# Altium schematic symbol library CPAV.SchLib: 61 symbols
Pins are listed as number, name and electrical type; pins without a type are passive.

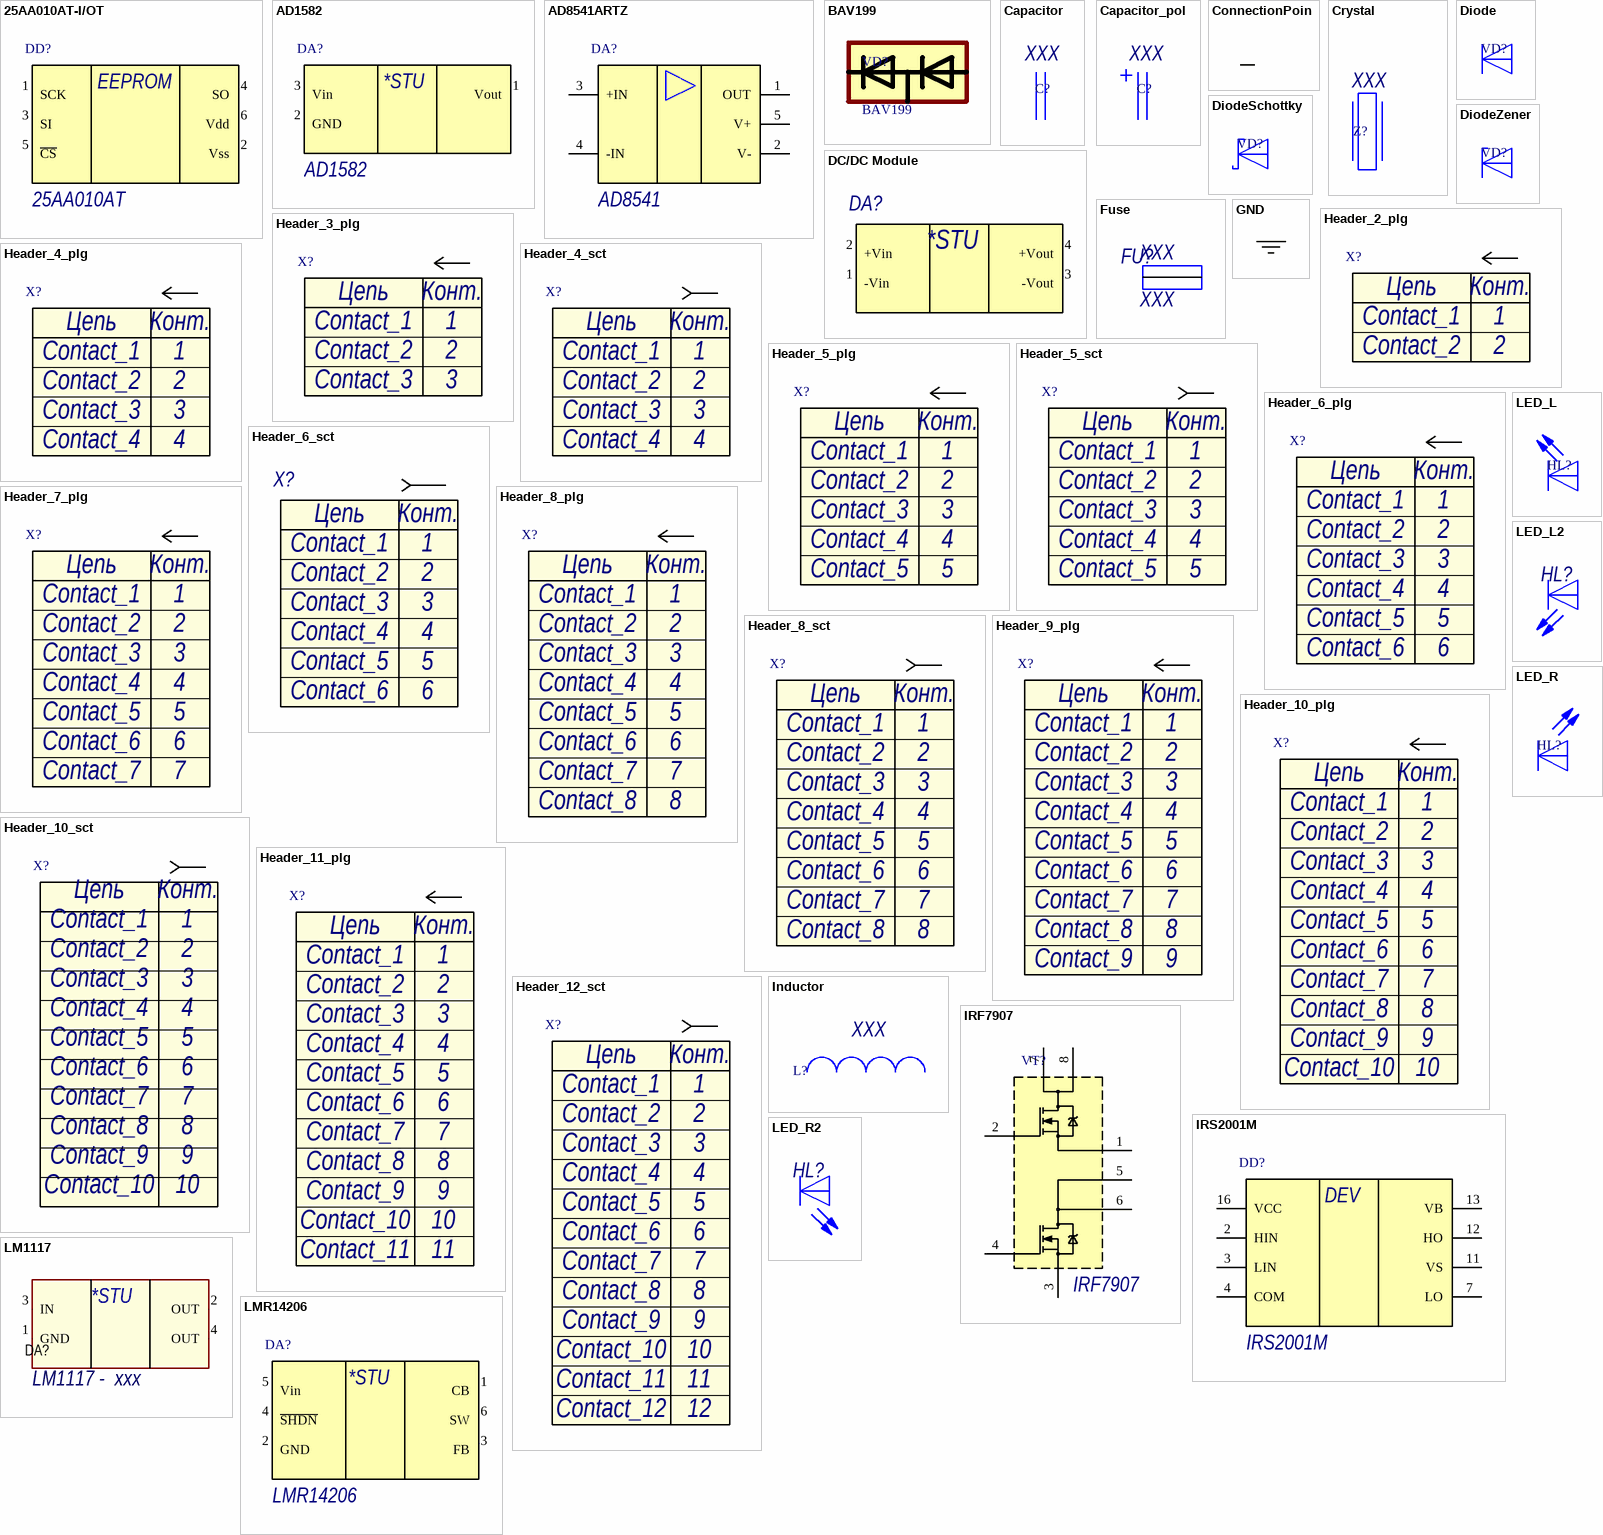
[diagram p0: symbols 25AA010AT-I/OT to LMR14206]

## 25AA010AT-I/OT
designator DD?, comment 25AA010AT
ПЗУ 1K SPI; Name: 25AA010AT
footprint SOT23-6_A
footprint SOT23-6_H
pins: 1 SCK, 2 Vss, 3 SI, 4 SO, 5 ~{CS}, 6 Vdd
text: EEPROM

## AD1582
designator DA?
ИОН 2.5В; Name: AD1582
footprint SOT23-3_A
footprint SOT23-3_H
pins: 1 Vout, 2 GND, 3 Vin
text: *STU

## AD8541ARTZ
designator DA?, comment AD8541
ОУ; Name: AD8541
footprint SOT23-5_A
footprint SOT23-5_H
pins: 1 OUT, 2 V-, 3 +IN, 4 -IN, 5 V+

## BAV199
designator VD?
2 диода; Name: BAV199
pins: 1, 2, 3

## Capacitor
designator C?, comment XXX
Конденсатор; Value: XXX
footprint C0402_A
footprint C0402_H
footprint C0603_A
footprint C0603_H
footprint C0805_A
footprint C0805_H
footprint C1206_A
footprint C1206_H
footprint C1210_A
footprint C1210_H
footprint C1812_A
footprint C1812_H
footprint C1825_A
footprint C1825_H
footprint C2220_A
footprint C2220_H
footprint C2225_A
footprint C2225_H
pins: 1, 2

## Capacitor_pol
designator C?, comment XXX
Конденсатор поляризованный; Value: XXX
footprint SMDA_A
footprint SMDA_H
footprint SMDB_A
footprint SMDB_H
footprint SMDC_A
footprint SMDC_H
footprint SMDD_A
footprint SMDD_H
footprint SMDE_A
footprint SMDE_H
footprint Cap_SMD_radial_polar(8x10) (8x10)
footprint CAP_PIN_RAD_8x8x11
footprint Cap_SMD_radial_polar(6.3x5.8)
pins: 1, 2

## ConnectionPoin
designator ?
ConnectionPoin
footprint ConnectionPoint
pins: 1, 2

## Crystal
designator Z?, comment XXX
Кварцевый резонатор; Value: XXX
footprint QSMD3.2x2.5_A
footprint QSMD3.2x2.5_H
footprint HC-49SM (Кварцевый резонатор поверхностного монтажа)
pins: 1, 2

## DC/DC Module
designator DA?  (value not drawn)
DC/DC модульный преобразователь; Name: *
footprint SIP4
pins: 1 -Vin, 2 +Vin, 3 -Vout, 4 +Vout
text: *STU

## Diode
designator VD?
Диод
footprint SOD523_A
footprint SOD523_H
pins: 1 K, 2 A

## DiodeSchottky
designator VD?
Диод Шоттки
footprint SOD123_A
footprint SOD123_H
footprint SMA_A
footprint SMA_H
footprint SOD-323
pins: 1 K, 2 A

## DiodeZener
designator VD?
Стабилитрон
footprint SMA_A
footprint SMA_H
footprint SOD523_A
footprint SOD523_H
footprint SOT23-2_A
footprint SOT23-2_H
footprint SMDB_A
footprint SMDB_H
pins: 1 K, 2 A

## Fuse
designator FU?, comment XXX
Предохранитель плавкий; Name: XXX; Value: XXX
footprint SMD 2.69/2.69/6.10
pins: 1, 2

## GND
designator GND  (value not drawn)
pins: 1 GND

## Header_2_plg
designator X?
Разъем - 2 конт. вилка; Contact_1: Contact_1; Contact_2: Contact_2
footprint MOLEX_picoblade_2
footprint MW-2M
footprint MW-2MR
footprint PWL-2R
footprint Terminal_2.54-2
footprint PBS2-2
footprint SMA-JR
footprint MF_2x1_H
pins: 1, 2
text: Цепь; Конт.

## Header_3_plg
designator X?
Разъем - 3 конт. вилка; Contact_1: Contact_1; Contact_2: Contact_2; Contact_3: Contact_3
footprint PLS2-3
footprint MOLEX_picoblade_3
footprint MOLEX_picoblade_3R
footprint PWL-3R
footprint Terminal_2.54-3
footprint MW-3MR
pins: 1, 2, 3
text: Цепь; Конт.

## Header_4_plg
designator X?
Разъем - 4 конт. вилка; Contact_1: Contact_1; Contact_2: Contact_2; Contact_3: Contact_3; Contact_4: Contact_4
footprint MOLEX_picoblade_4
footprint MOLEX_picoblade_4R
footprint MW-4M
footprint MW-4MR
footprint THP-4MR
pins: 1, 2, 3, 4
text: Цепь; Конт.

## Header_4_sct
designator X?
Разъем - 4 конт. розетка; Contact_1: Contact_1; Contact_2: Contact_2; Contact_3: Contact_3; Contact_4: Contact_4
footprint MOLEX_picoblade_4
footprint MOLEX_picoblade_4R
footprint MW-4MR
footprint MW-4M
pins: 1, 2, 3, 4
text: Цепь; Конт.

## Header_5_plg
designator X?
Разъем - 5 конт. вилка; Contact_1: Contact_1; Contact_2: Contact_2; Contact_3: Contact_3; Contact_4: Contact_4; Contact_5: Contact_5
footprint MOLEX_picoblade_5
footprint MW-5M
footprint MW-5MR
pins: 1, 2, 3, 4, 5
text: Цепь; Конт.

## Header_5_sct
designator X?
Разъем - 5 конт. розетка; Contact_1: Contact_1; Contact_2: Contact_2; Contact_3: Contact_3; Contact_4: Contact_4; Contact_5: Contact_5
footprint MOLEX_picoblade_5
footprint MW-5M
footprint MW-5MR
pins: 1, 2, 3, 4, 5
text: Цепь; Конт.

## Header_6_plg
designator X?
Разъем - 6 конт. вилка; Contact_1: Contact_1; Contact_2: Contact_2; Contact_3: Contact_3; Contact_4: Contact_4; Contact_5: Contact_5; Contact_6: Contact_6
footprint MOLEX_picoblade_6
footprint MW-6M
footprint PLS-6
pins: 1, 2, 3, 4, 5, 6
text: Цепь; Конт.

## Header_6_sct
designator X?  (value not drawn)
Разъем  - 6 конт. розетка; Contact_1: Contact_1; Contact_2: Contact_2; Contact_3: Contact_3; Contact_4: Contact_4; Contact_5: Contact_5; Contact_6: Contact_6
footprint 06FDZ-ST
pins: 1, 2, 3, 4, 5, 6
text: Цепь; Конт.

## Header_7_plg
designator X?
Разъем - 7 конт. вилка; Contact_1: Contact_1; Contact_2: Contact_2; Contact_3: Contact_3; Contact_4: Contact_4; Contact_5: Contact_5; Contact_6: Contact_6; Contact_7: Contact_7
footprint MOLEX_picoblade_7
pins: 1, 2, 3, 4, 5, 6, 7
text: Цепь; Конт.

## Header_8_plg
designator X?
Разъем - 8 конт. вилка; Contact_1: Contact_1; Contact_2: Contact_2; Contact_3: Contact_3; Contact_4: Contact_4; Contact_5: Contact_5; Contact_6: Contact_6; Contact_7: Contact_7; Contact_8: Contact_8
footprint MOLEX_picoblade_8
pins: 1, 2, 3, 4, 5, 6, 7, 8
text: Цепь; Конт.

## Header_8_sct
designator X?
Разъем - 8 конт. розетка; Contact_1: Contact_1; Contact_2: Contact_2; Contact_3: Contact_3; Contact_4: Contact_4; Contact_5: Contact_5; Contact_6: Contact_6; Contact_7: Contact_7; Contact_8: Contact_8
footprint MOLEX_picoblade_8
pins: 1, 2, 3, 4, 5, 6, 7, 8
text: Цепь; Конт.

## Header_9_plg
designator X?
Разъем - 9 конт. вилка; Contact_1: Contact_1; Contact_2: Contact_2; Contact_3: Contact_3; Contact_4: Contact_4; Contact_5: Contact_5; Contact_6: Contact_6; Contact_7: Contact_7; Contact_8: Contact_8; Contact_9: Contact_9
pins: 1, 2, 3, 4, 5, 6, 7, 8, 9
text: Цепь; Конт.

## Header_10_plg
designator X?
Разъем - 10 конт. вилка; Contact_1: Contact_1; Contact_2: Contact_2; Contact_3: Contact_3; Contact_4: Contact_4; Contact_5: Contact_5; Contact_6: Contact_6; Contact_7: Contact_7; Contact_8: Contact_8; Contact_9: Contact_9; Contact_10: Contact_10
footprint PLLD1.27-10S (PLDD-1.27)
footprint MOLEX_PICOBLADE_10
pins: 1, 2, 3, 4, 5, 6, 7, 8, 9, 10
text: Цепь; Конт.

## Header_10_sct
designator X?
Разъем - 10 конт. розетка; Contact_1: Contact_1; Contact_2: Contact_2; Contact_3: Contact_3; Contact_4: Contact_4; Contact_5: Contact_5; Contact_6: Contact_6; Contact_7: Contact_7; Contact_8: Contact_8; Contact_9: Contact_9; Contact_10: Contact_10
footprint MOLEX_52207-1085
footprint PBS2-10
footprint PBS2-10S
pins: 1, 2, 3, 4, 5, 6, 7, 8, 9, 10
text: Цепь; Конт.

## Header_11_plg
designator X?
Разъем - 11 конт. вилка; Contact_1: Contact_1; Contact_2: Contact_2; Contact_3: Contact_3; Contact_4: Contact_4; Contact_5: Contact_5; Contact_6: Contact_6; Contact_7: Contact_7; Contact_8: Contact_8; Contact_9: Contact_9; Contact_10: Contact_10; Contact_11: Contact_11
pins: 1, 2, 3, 4, 5, 6, 7, 8, 9, 10, 11
text: Цепь; Конт.

## Header_12_sct
designator X?
Разъем - 12 конт. розетка; Contact_1: Contact_1; Contact_2: Contact_2; Contact_3: Contact_3; Contact_4: Contact_4; Contact_5: Contact_5; Contact_6: Contact_6; Contact_7: Contact_7; Contact_8: Contact_8; Contact_9: Contact_9; Contact_10: Contact_10; Contact_11: Contact_11; Contact_12: Contact_12
footprint PBS2-12
footprint PBS2-12S
pins: 1, 2, 3, 4, 5, 6, 7, 8, 9, 10, 11, 12
text: Цепь; Конт.

## Inductor
designator L?, comment XXX
Катушка индуктивности; Value: XXX
footprint L0603_A
footprint L0603_H
footprint IND_CDRH4D28C_A
footprint IND_CDRH4D28C_H
footprint IND_SRU1048_A
footprint IND_SRU1048_H
footprint IND_RCR-875D
footprint IND 8.3x8.3x4
footprint IND_CDRH104
footprint IND_CDC5D23B
footprint IND_CDRH127
footprint IND_CDR74NP
pins: 1, 2

## IRF7907
designator VT?
2 x N-MOSFET; Name: IRF7907
footprint SO8_A
footprint SO8_H
pins: 1, 2, 3, 4, 5, 6, 7, 8

## IRS2001M
designator DD?
HI-LO side driver; Name: IRS2001M
footprint MLPQ4x4
pins: 2 HIN, 3 LIN, 4 COM, 7 LO, 11 VS, 12 HO, 13 VB, 16 VCC
text: DEV

## LED_L
designator HL?
Светодиод
footprint D0603_A
footprint D0603_H
pins: 1 K, 2 A

## LED_L2
designator HL?  (value not drawn)
Светодиод; Name: *
footprint D0603_H
footprint D0603_A
pins: 1 K, 2 A

## LED_R
designator HL?
Светодиод
footprint D0603_A
footprint D0603_H
pins: 1 K, 2 A

## LED_R2
designator HL?  (value not drawn)
Светодиод; Name: *
footprint D0603_A
footprint D0603_H
pins: 1 K, 2 A

## LM1117
designator DA?, comment Vout: xxx  (hidden comment: LM1117 -)
Линейный стабилизатор напряжения; Vin: 20V; Imax: 800mA; Name: LM1117 -
footprint SOT223
footprint TO-263
pins: 1 GND, 2 OUT, 3 IN, 4 OUT
text: *STU

## LMR14206
designator DA?
DC\DC; Name: LMR14206
footprint SOT23-6_A
footprint SOT23-6_H
pins: 1 CB, 2 GND, 3 FB, 4 ~{SHDN}, 5 Vin, 6 SW
text: *STU

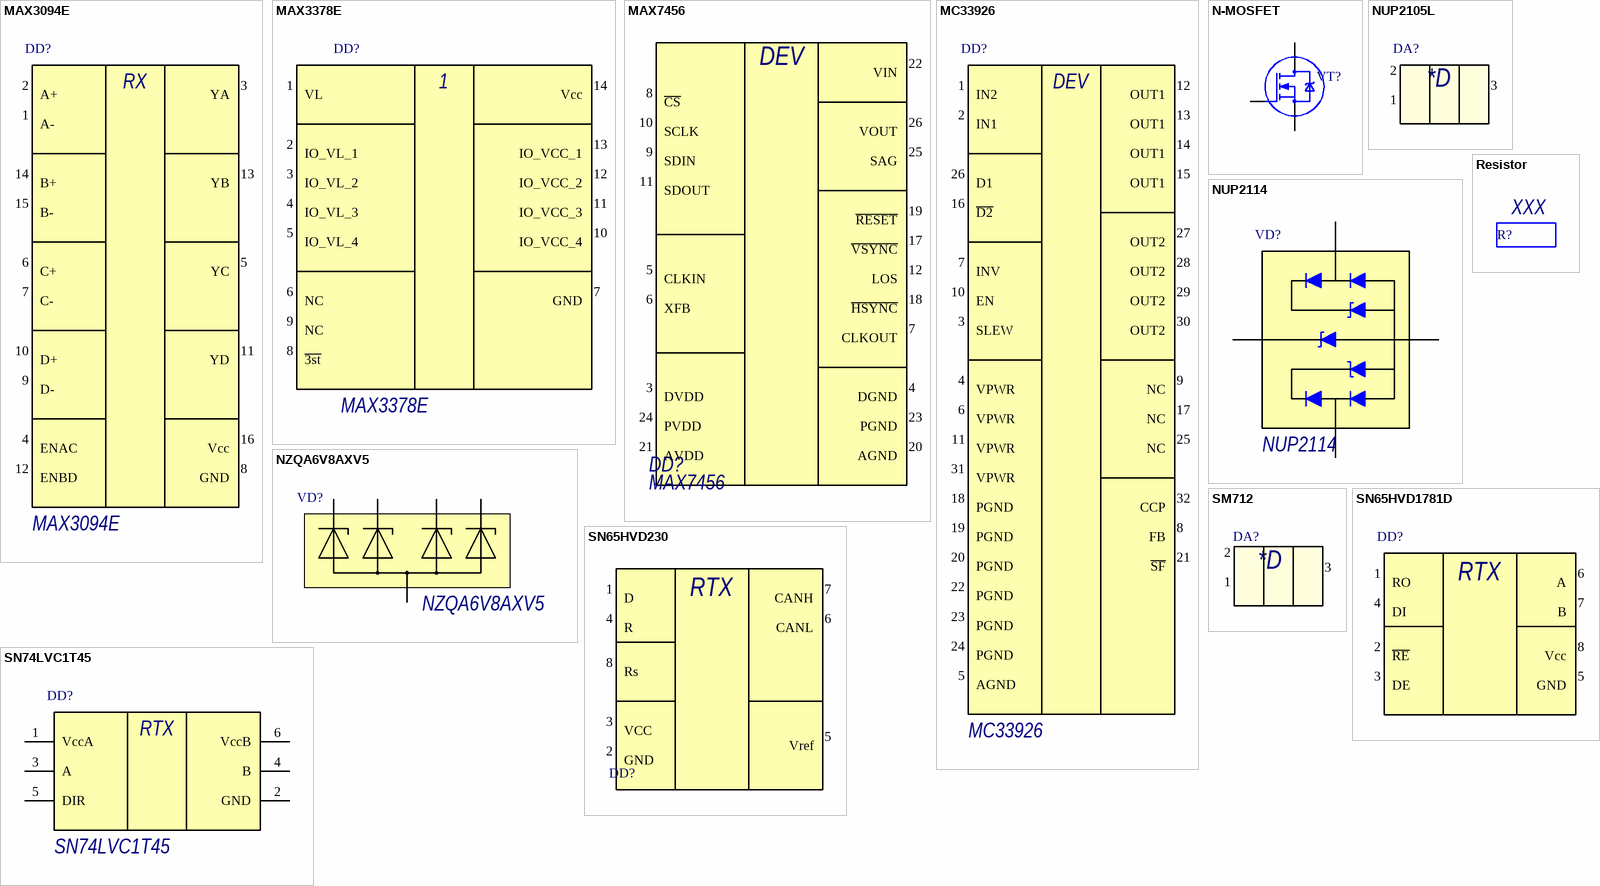
[diagram p1: symbols MAX3094E to SN74LVC1T45]

## MAX3094E
designator DD?
4 x RX RS-485; Name: MAX3094E
pins: 1 A-, 2 A+, 3 YA, 4 ENAC, 5 YC, 6 C+, 7 C-, 8 GND, 9 D-, 10 D+, 11 YD, 12 ENBD, 13 YB, 14 B+, 15 B-, 16 Vcc
text: RX

## MAX3378E
designator DD?
Преобразователь уровней; Name: MAX3378E
footprint TSSOP14_A
footprint TSSOP14_H
pins: 1 VL, 2 IO_VL_1, 3 IO_VL_2, 4 IO_VL_3, 5 IO_VL_4, 6 NC, 7 GND, 8 ~{3st}, 9 NC, 10 IO_VCC_4, 11 IO_VCC_3, 12 IO_VCC_2, 13 IO_VCC_1, 14 Vcc

## MAX7456
designator DD?
On-Screen Display; Name: MAX7456
footprint TSSOP28_wEP (TSSOP28_with_Exposed_Pad)
pins: 1 NC hidden, 2 NC hidden, 3 DVDD, 4 DGND, 5 CLKIN, 6 XFB, 7 CLKOUT, 8 ~{CS}, 9 SDIN, 10 SCLK, 11 SDOUT, 12 LOS, 13 NC hidden, 14 NC hidden, 15 NC hidden, 16 NC hidden, 17 ~{VSYNC}, 18 ~{HSYNC}, 19 ~{RESET}, 20 AGND, 21 AVDD, 22 VIN, 23 PGND, 24 PVDD, 25 SAG, 26 VOUT, 27 NC hidden, 28 NC hidden
text: DEV

## MC33926
designator DD?
Н-мост 5А; Name: MC33926
footprint PQFN32
pins: 1 IN2, 2 IN1, 3 SLEW, 4 VPWR, 5 AGND, 6 VPWR, 7 INV, 8 FB, 9 NC, 10 EN, 11 VPWR, 12 OUT1, 13 OUT1, 14 OUT1, 15 OUT1, 16 ~{D2}, 17 NC, 18 PGND, 19 PGND, 20 PGND, 21 ~{SF}, 22 PGND, 23 PGND, 24 PGND, 25 NC, 26 D1, 27 OUT2, 28 OUT2, 29 OUT2, 30 OUT2, 31 VPWR, 32 CCP
text: DEV

## N-MOSFET
designator VT?
N-канальный MOSFET
footprint SOT23-3_A
footprint SOT23-3_H
pins: 1 G, 2 S, 3 D

## NUP2105L
designator DA?, comment NUP2105  (value not drawn)
Защитная сборка CAN; Name: NUP2105
footprint SOT23-3_A
footprint SOT23-3_H
pins: 1 K, 2 K, 3 A
text: *D

## NUP2114
designator VD?
Защитная сборка; Name: NUP2114
footprint TSOP-6
pins: 1, 2, 3 hidden, 4 hidden, 5, 6

## NZQA6V8AXV5
designator VD?
Сборка TVS-диодов; Name: NZQA6V8AXV5
footprint SOT553-5_A
footprint SOT553-5_H
pins: 1, 2, 3, 4, 5

## Resistor
designator R?, comment XXX
Резистор; Value: XXX
footprint R0402_A
footprint R0402_H
footprint R0603_H
footprint R0805_A
footprint R0805_H
footprint R1206_A
footprint R1206_H
footprint R1210_A
footprint R1210_H
footprint R2010_A
footprint R2010_H
footprint R2512_A
footprint R2512_H
footprint R0603_A
pins: 1, 2

## SM712
designator DA?
TVS
footprint SOT23-3_A
footprint SOT23-3_H
pins: 1 K, 2 K, 3 A
text: *D

## SN65HVD230
designator DD?  (value not drawn)
3.3V Supply CAN Transceiver; Name: SN65HVD230
footprint SO8_H
pins: 1 D, 2 GND, 3 VCC, 4 R, 5 Vref, 6 CANL, 7 CANH, 8 Rs
text: RTX

## SN65HVD1781D
designator DD?  (value not drawn)
Приемопередатчик RS485; Name: SN65HVD1781D
footprint SO8_A
footprint SO8_H
pins: 1 RO, 2 ~{RE}, 3 DE, 4 DI, 5 GND, 6 A, 7 B, 8 Vcc
text: RTX

## SN74LVC1T45
designator DD?
Преобразователь уровней; Name: SN74LVC1T45
pins: 1 VccA, 2 GND, 3 A, 4 B, 5 DIR, 6 VccB
text: RTX

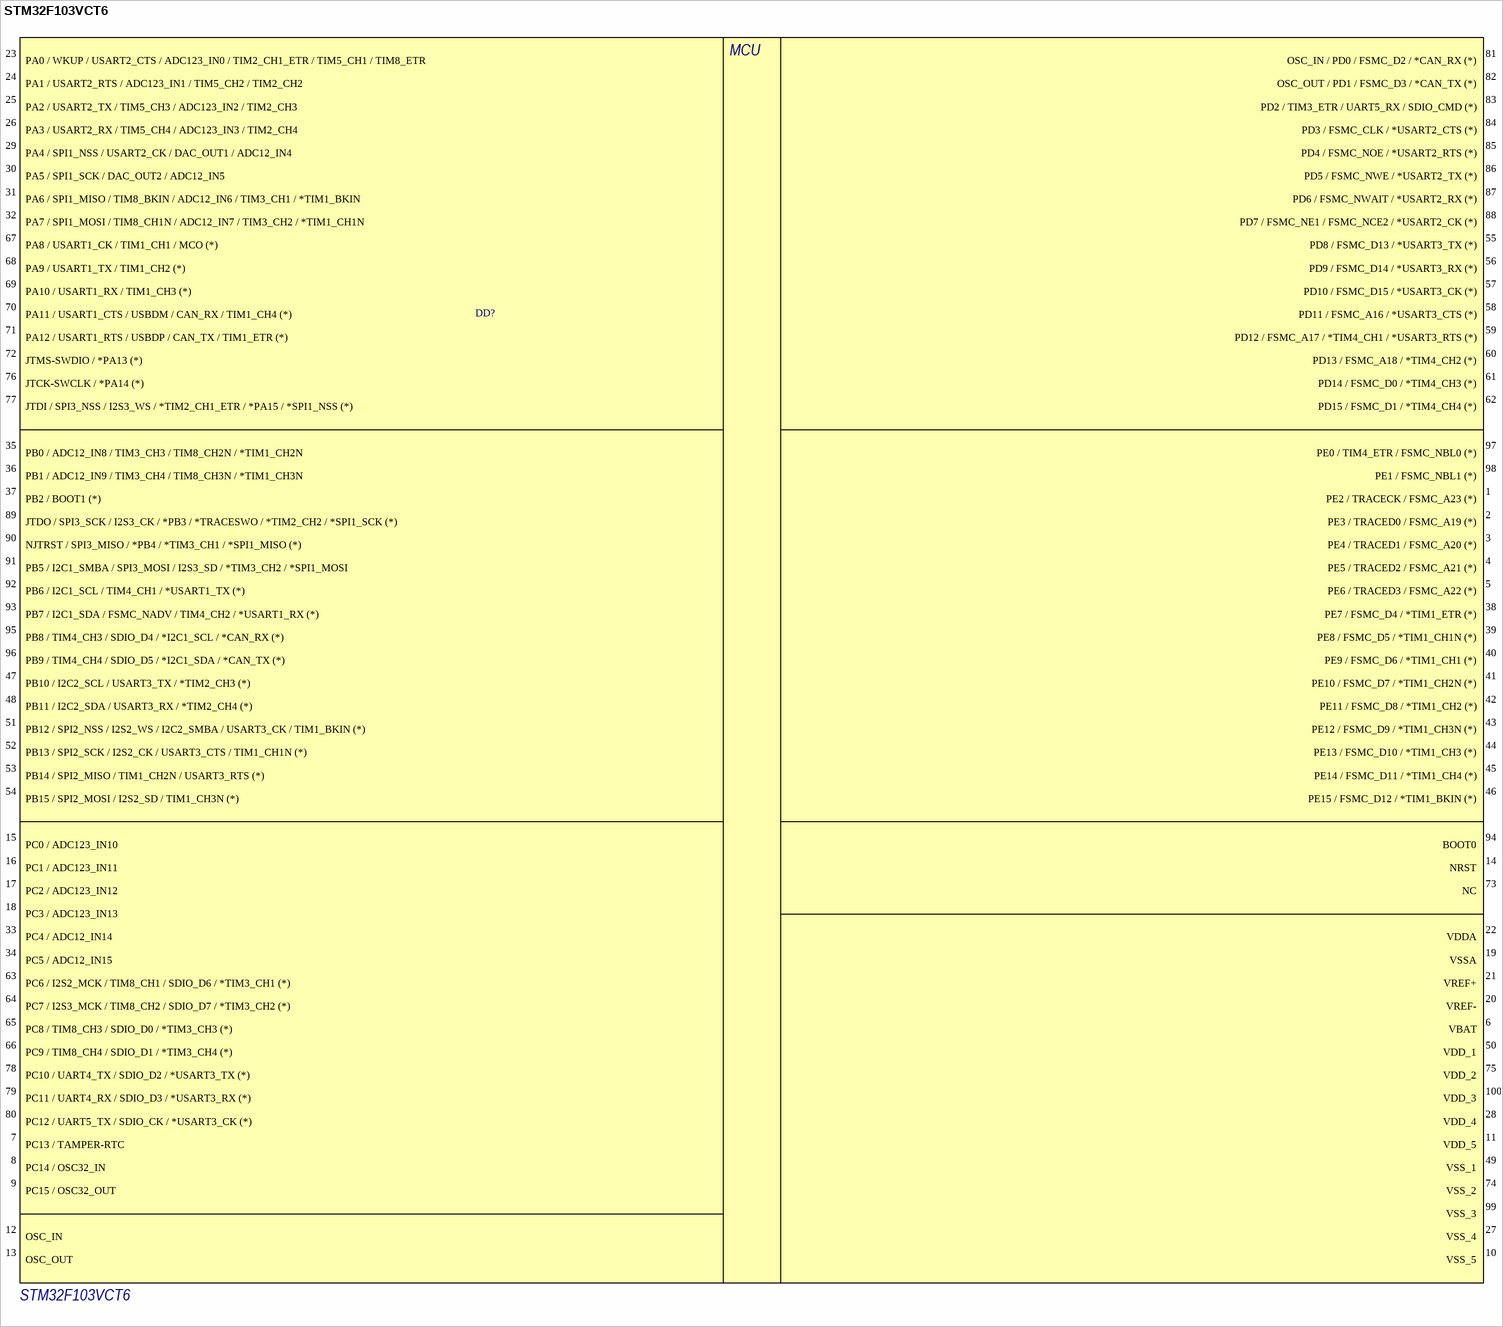
[diagram p2: symbol STM32F103VCT6]

## STM32F103VCT6
designator DD?
Микроконтроллер; Name: STM32F103VCT6
footprint LQPF100_A
footprint LQPF100_H
pins: 1 PE2 / TRACECK / FSMC_A23 (*), 2 PE3 / TRACED0 / FSMC_A19 (*), 3 PE4 / TRACED1 / FSMC_A20 (*), 4 PE5 / TRACED2 / FSMC_A21 (*), 5 PE6 / TRACED3 / FSMC_A22 (*), 6 VBAT, 7 PC13 / TAMPER-RTC, 8 PC14 / OSC32_IN, 9 PC15 / OSC32_OUT, 10 VSS_5, 11 VDD_5, 12 OSC_IN, 13 OSC_OUT, 14 NRST, 15 PC0 / ADC123_IN10, 16 PC1 / ADC123_IN11, 17 PC2 / ADC123_IN12, 18 PC3 / ADC123_IN13, 19 VSSA, 20 VREF-, 21 VREF+, 22 VDDA, 23 PA0 / WKUP / USART2_CTS / ADC123_IN0 / TIM2_CH1_ETR / TIM5_CH1 / TIM8_ETR, 24 PA1 / USART2_RTS / ADC123_IN1 / TIM5_CH2 / TIM2_CH2, 25 PA2 / USART2_TX / TIM5_CH3 / ADC123_IN2 / TIM2_CH3, 26 PA3 / USART2_RX / TIM5_CH4 / ADC123_IN3 / TIM2_CH4, 27 VSS_4, 28 VDD_4, 29 PA4 / SPI1_NSS / USART2_CK / DAC_OUT1 / ADC12_IN4, 30 PA5 / SPI1_SCK / DAC_OUT2 / ADC12_IN5, 31 PA6 / SPI1_MISO / TIM8_BKIN / ADC12_IN6 / TIM3_CH1 / *TIM1_BKIN, 32 PA7 / SPI1_MOSI / TIM8_CH1N / ADC12_IN7 / TIM3_CH2 / *TIM1_CH1N, 33 PC4 / ADC12_IN14, 34 PC5 / ADC12_IN15, 35 PB0 / ADC12_IN8 / TIM3_CH3 / TIM8_CH2N / *TIM1_CH2N, 36 PB1 / ADC12_IN9 / TIM3_CH4 / TIM8_CH3N / *TIM1_CH3N, 37 PB2 / BOOT1 (*), 38 PE7 / FSMC_D4 / *TIM1_ETR (*), 39 PE8 / FSMC_D5 / *TIM1_CH1N (*), 40 PE9 / FSMC_D6 / *TIM1_CH1 (*), 41 PE10 / FSMC_D7 / *TIM1_CH2N (*), 42 PE11 / FSMC_D8 / *TIM1_CH2 (*), 43 PE12 / FSMC_D9 / *TIM1_CH3N (*), 44 PE13 / FSMC_D10 / *TIM1_CH3 (*), 45 PE14 / FSMC_D11 / *TIM1_CH4 (*), 46 PE15 / FSMC_D12 / *TIM1_BKIN (*), 47 PB10 / I2C2_SCL / USART3_TX / *TIM2_CH3 (*), 48 PB11 / I2C2_SDA / USART3_RX / *TIM2_CH4 (*), 49 VSS_1, 50 VDD_1, 51 PB12 / SPI2_NSS / I2S2_WS / I2C2_SMBA / USART3_CK / TIM1_BKIN (*), 52 PB13 / SPI2_SCK / I2S2_CK / USART3_CTS / TIM1_CH1N (*), 53 PB14 / SPI2_MISO / TIM1_CH2N / USART3_RTS (*), 54 PB15 / SPI2_MOSI / I2S2_SD / TIM1_CH3N (*), 55 PD8 / FSMC_D13 / *USART3_TX (*), 56 PD9 / FSMC_D14 / *USART3_RX (*), 57 PD10 / FSMC_D15 / *USART3_CK (*), 58 PD11 / FSMC_A16 / *USART3_CTS (*), 59 PD12 / FSMC_A17 / *TIM4_CH1 / *USART3_RTS (*), 60 PD13 / FSMC_A18 / *TIM4_CH2 (*), 61 PD14 / FSMC_D0 / *TIM4_CH3 (*), 62 PD15 / FSMC_D1 / *TIM4_CH4 (*), 63 PC6 / I2S2_MCK / TIM8_CH1 / SDIO_D6 / *TIM3_CH1 (*), 64 PC7 / I2S3_MCK / TIM8_CH2 / SDIO_D7 / *TIM3_CH2 (*), 65 PC8 / TIM8_CH3 / SDIO_D0 / *TIM3_CH3 (*), 66 PC9 / TIM8_CH4 / SDIO_D1 / *TIM3_CH4 (*), 67 PA8 / USART1_CK / TIM1_CH1 / MCO (*), 68 PA9 / USART1_TX / TIM1_CH2 (*), 69 PA10 / USART1_RX / TIM1_CH3 (*), 70 PA11 / USART1_CTS / USBDM / CAN_RX / TIM1_CH4 (*), 71 PA12 / USART1_RTS / USBDP / CAN_TX / TIM1_ETR (*), 72 JTMS-SWDIO / *PA13 (*), 73 NC, 74 VSS_2, 75 VDD_2, 76 JTCK-SWCLK / *PA14 (*), 77 JTDI / SPI3_NSS / I2S3_WS / *TIM2_CH1_ETR / *PA15 / *SPI1_NSS (*), 78 PC10 / UART4_TX / SDIO_D2 / *USART3_TX (*), 79 PC11 / UART4_RX / SDIO_D3 / *USART3_RX (*), 80 PC12 / UART5_TX / SDIO_CK / *USART3_CK (*), 81 OSC_IN / PD0 / FSMC_D2 / *CAN_RX (*), 82 OSC_OUT / PD1 / FSMC_D3 / *CAN_TX (*), 83 PD2 / TIM3_ETR / UART5_RX / SDIO_CMD (*), 84 PD3 / FSMC_CLK / *USART2_CTS (*), 85 PD4 / FSMC_NOE / *USART2_RTS (*), 86 PD5 / FSMC_NWE / *USART2_TX (*), 87 PD6 / FSMC_NWAIT / *USART2_RX (*), 88 PD7 / FSMC_NE1 / FSMC_NCE2 / *USART2_CK (*), 89 JTDO / SPI3_SCK / I2S3_CK / *PB3 / *TRACESWO / *TIM2_CH2 / *SPI1_SCK (*), 90 NJTRST / SPI3_MISO / *PB4 / *TIM3_CH1 / *SPI1_MISO (*), 91 PB5 / I2C1_SMBA / SPI3_MOSI / I2S3_SD / *TIM3_CH2 / *SPI1_MOSI, 92 PB6 / I2C1_SCL / TIM4_CH1 / *USART1_TX (*), 93 PB7 / I2C1_SDA / FSMC_NADV / TIM4_CH2 / *USART1_RX (*), 94 BOOT0, 95 PB8 / TIM4_CH3 / SDIO_D4 / *I2C1_SCL / *CAN_RX (*), 96 PB9 / TIM4_CH4 / SDIO_D5 / *I2C1_SDA / *CAN_TX (*), 97 PE0 / TIM4_ETR / FSMC_NBL0 (*), 98 PE1 / FSMC_NBL1 (*), 99 VSS_3, 100 VDD_3
text: MCU

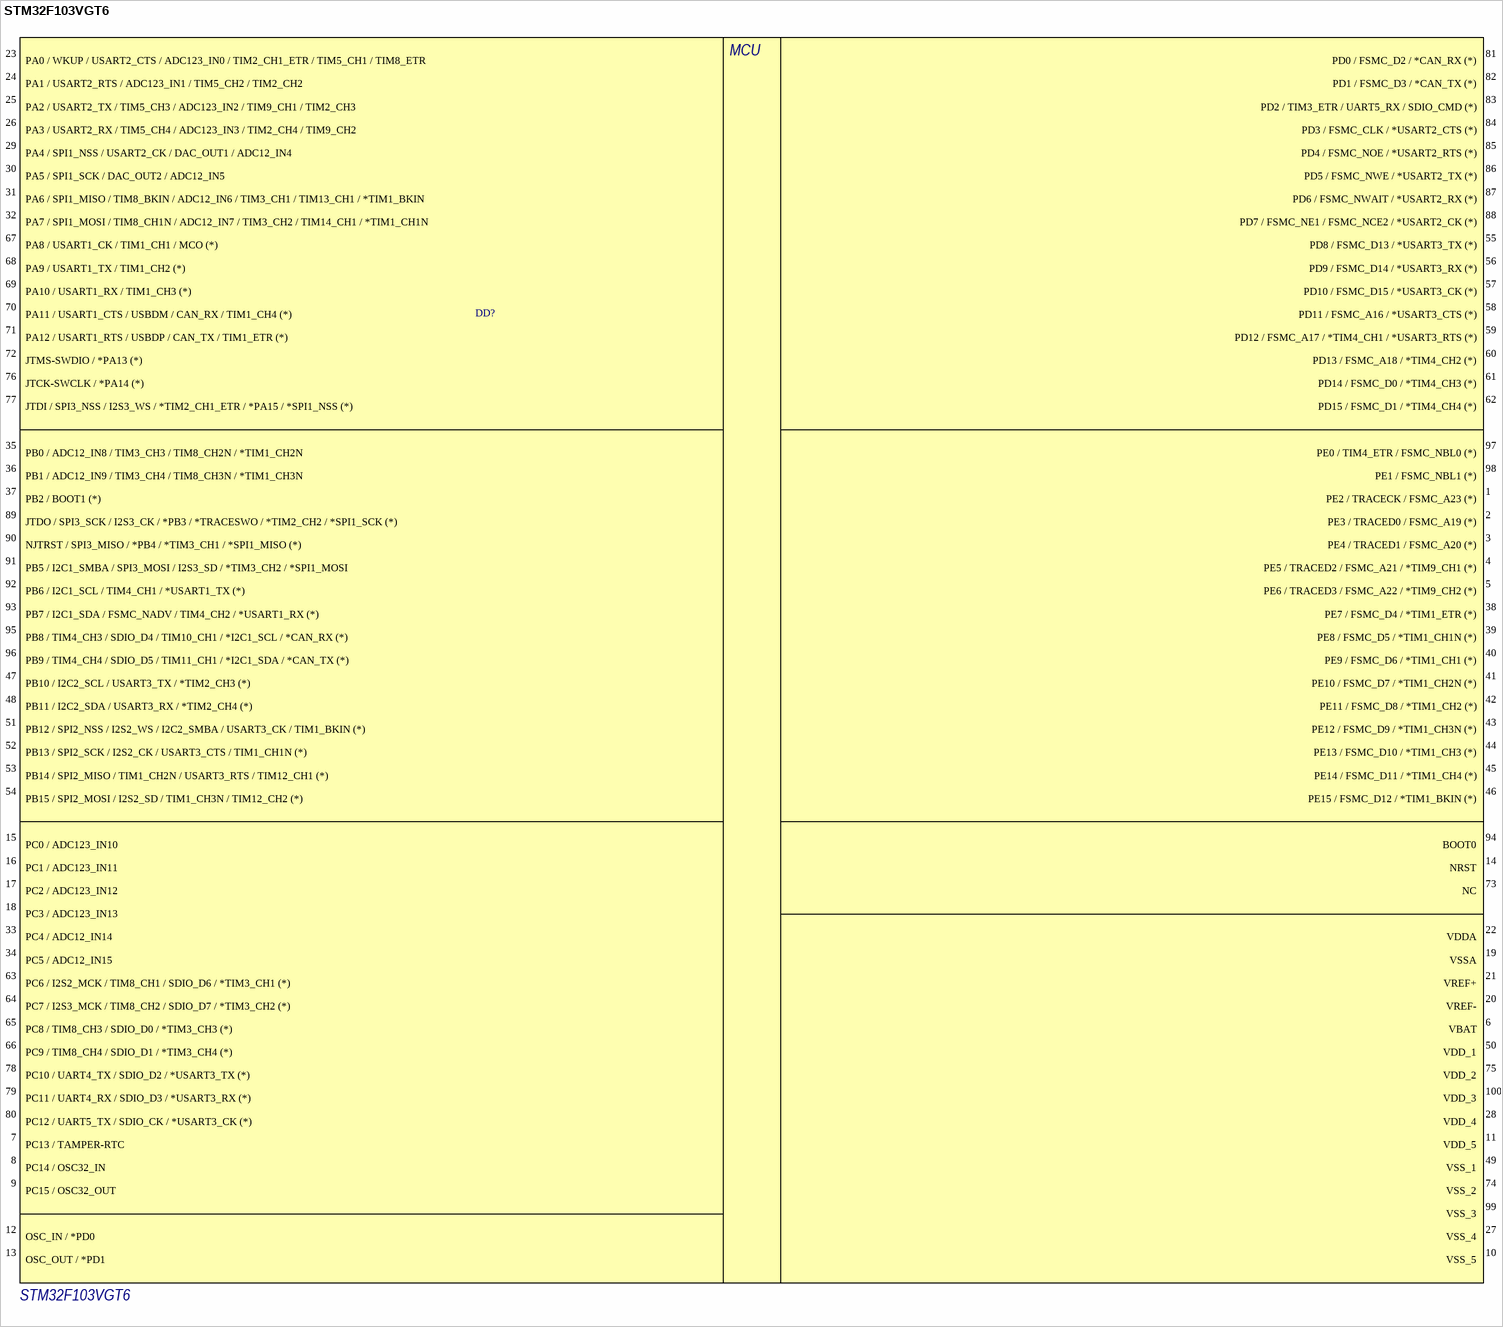
[diagram p3: symbol STM32F103VGT6]

## STM32F103VGT6
designator DD?
Микроконтроллер; Name: STM32F103VGT6
footprint LQPF100_A
footprint LQPF100_H
pins: 1 PE2 / TRACECK / FSMC_A23 (*), 2 PE3 / TRACED0 / FSMC_A19 (*), 3 PE4 / TRACED1 / FSMC_A20 (*), 4 PE5 / TRACED2 / FSMC_A21 / *TIM9_CH1 (*), 5 PE6 / TRACED3 / FSMC_A22 / *TIM9_CH2 (*), 6 VBAT, 7 PC13 / TAMPER-RTC, 8 PC14 / OSC32_IN, 9 PC15 / OSC32_OUT, 10 VSS_5, 11 VDD_5, 12 OSC_IN / *PD0, 13 OSC_OUT / *PD1, 14 NRST, 15 PC0 / ADC123_IN10, 16 PC1 / ADC123_IN11, 17 PC2 / ADC123_IN12, 18 PC3 / ADC123_IN13, 19 VSSA, 20 VREF-, 21 VREF+, 22 VDDA, 23 PA0 / WKUP / USART2_CTS / ADC123_IN0 / TIM2_CH1_ETR / TIM5_CH1 / TIM8_ETR, 24 PA1 / USART2_RTS / ADC123_IN1 / TIM5_CH2 / TIM2_CH2, 25 PA2 / USART2_TX / TIM5_CH3 / ADC123_IN2 / TIM9_CH1 / TIM2_CH3, 26 PA3 / USART2_RX / TIM5_CH4 / ADC123_IN3 / TIM2_CH4 / TIM9_CH2, 27 VSS_4, 28 VDD_4, 29 PA4 / SPI1_NSS / USART2_CK / DAC_OUT1 / ADC12_IN4, 30 PA5 / SPI1_SCK / DAC_OUT2 / ADC12_IN5, 31 PA6 / SPI1_MISO / TIM8_BKIN / ADC12_IN6 / TIM3_CH1 / TIM13_CH1 / *TIM1_BKIN, 32 PA7 / SPI1_MOSI / TIM8_CH1N / ADC12_IN7 / TIM3_CH2 / TIM14_CH1 / *TIM1_CH1N, 33 PC4 / ADC12_IN14, 34 PC5 / ADC12_IN15, 35 PB0 / ADC12_IN8 / TIM3_CH3 / TIM8_CH2N / *TIM1_CH2N, 36 PB1 / ADC12_IN9 / TIM3_CH4 / TIM8_CH3N / *TIM1_CH3N, 37 PB2 / BOOT1 (*), 38 PE7 / FSMC_D4 / *TIM1_ETR (*), 39 PE8 / FSMC_D5 / *TIM1_CH1N (*), 40 PE9 / FSMC_D6 / *TIM1_CH1 (*), 41 PE10 / FSMC_D7 / *TIM1_CH2N (*), 42 PE11 / FSMC_D8 / *TIM1_CH2 (*), 43 PE12 / FSMC_D9 / *TIM1_CH3N (*), 44 PE13 / FSMC_D10 / *TIM1_CH3 (*), 45 PE14 / FSMC_D11 / *TIM1_CH4 (*), 46 PE15 / FSMC_D12 / *TIM1_BKIN (*), 47 PB10 / I2C2_SCL / USART3_TX / *TIM2_CH3 (*), 48 PB11 / I2C2_SDA / USART3_RX / *TIM2_CH4 (*), 49 VSS_1, 50 VDD_1, 51 PB12 / SPI2_NSS / I2S2_WS / I2C2_SMBA / USART3_CK / TIM1_BKIN (*), 52 PB13 / SPI2_SCK / I2S2_CK / USART3_CTS / TIM1_CH1N (*), 53 PB14 / SPI2_MISO / TIM1_CH2N / USART3_RTS / TIM12_CH1 (*), 54 PB15 / SPI2_MOSI / I2S2_SD / TIM1_CH3N / TIM12_CH2 (*), 55 PD8 / FSMC_D13 / *USART3_TX (*), 56 PD9 / FSMC_D14 / *USART3_RX (*), 57 PD10 / FSMC_D15 / *USART3_CK (*), 58 PD11 / FSMC_A16 / *USART3_CTS (*), 59 PD12 / FSMC_A17 / *TIM4_CH1 / *USART3_RTS (*), 60 PD13 / FSMC_A18 / *TIM4_CH2 (*), 61 PD14 / FSMC_D0 / *TIM4_CH3 (*), 62 PD15 / FSMC_D1 / *TIM4_CH4 (*), 63 PC6 / I2S2_MCK / TIM8_CH1 / SDIO_D6 / *TIM3_CH1 (*), 64 PC7 / I2S3_MCK / TIM8_CH2 / SDIO_D7 / *TIM3_CH2 (*), 65 PC8 / TIM8_CH3 / SDIO_D0 / *TIM3_CH3 (*), 66 PC9 / TIM8_CH4 / SDIO_D1 / *TIM3_CH4 (*), 67 PA8 / USART1_CK / TIM1_CH1 / MCO (*), 68 PA9 / USART1_TX / TIM1_CH2 (*), 69 PA10 / USART1_RX / TIM1_CH3 (*), 70 PA11 / USART1_CTS / USBDM / CAN_RX / TIM1_CH4 (*), 71 PA12 / USART1_RTS / USBDP / CAN_TX / TIM1_ETR (*), 72 JTMS-SWDIO / *PA13 (*), 73 NC, 74 VSS_2, 75 VDD_2, 76 JTCK-SWCLK / *PA14 (*), 77 JTDI / SPI3_NSS / I2S3_WS / *TIM2_CH1_ETR / *PA15 / *SPI1_NSS (*), 78 PC10 / UART4_TX / SDIO_D2 / *USART3_TX (*), 79 PC11 / UART4_RX / SDIO_D3 / *USART3_RX (*), 80 PC12 / UART5_TX / SDIO_CK / *USART3_CK (*), 81 PD0 / FSMC_D2 / *CAN_RX (*), 82 PD1 / FSMC_D3 / *CAN_TX (*), 83 PD2 / TIM3_ETR / UART5_RX / SDIO_CMD (*), 84 PD3 / FSMC_CLK / *USART2_CTS (*), 85 PD4 / FSMC_NOE / *USART2_RTS (*), 86 PD5 / FSMC_NWE / *USART2_TX (*), 87 PD6 / FSMC_NWAIT / *USART2_RX (*), 88 PD7 / FSMC_NE1 / FSMC_NCE2 / *USART2_CK (*), 89 JTDO / SPI3_SCK / I2S3_CK / *PB3 / *TRACESWO / *TIM2_CH2 / *SPI1_SCK (*), 90 NJTRST / SPI3_MISO / *PB4 / *TIM3_CH1 / *SPI1_MISO (*), 91 PB5 / I2C1_SMBA / SPI3_MOSI / I2S3_SD / *TIM3_CH2 / *SPI1_MOSI, 92 PB6 / I2C1_SCL / TIM4_CH1 / *USART1_TX (*), 93 PB7 / I2C1_SDA / FSMC_NADV / TIM4_CH2 / *USART1_RX (*), 94 BOOT0, 95 PB8 / TIM4_CH3 / SDIO_D4 / TIM10_CH1 / *I2C1_SCL / *CAN_RX (*), 96 PB9 / TIM4_CH4 / SDIO_D5 / TIM11_CH1 / *I2C1_SDA / *CAN_TX (*), 97 PE0 / TIM4_ETR / FSMC_NBL0 (*), 98 PE1 / FSMC_NBL1 (*), 99 VSS_3, 100 VDD_3
text: MCU

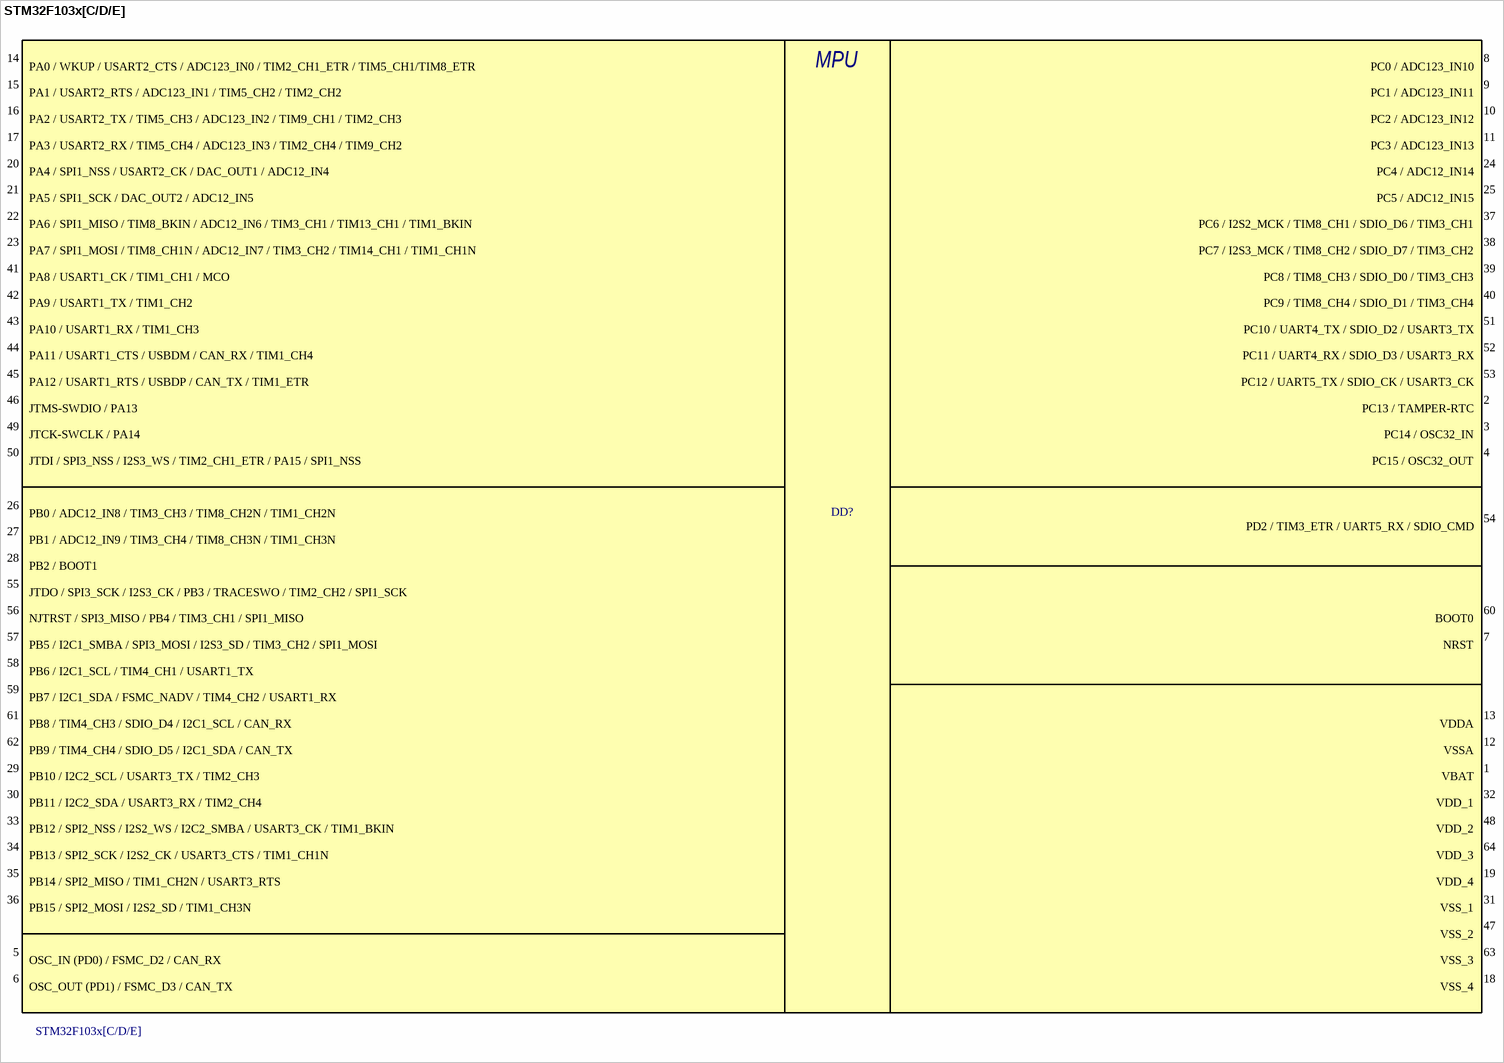
[diagram p4: symbol STM32F103x[C/D/E]]

## STM32F103x[C/D/E]
designator DD?
Микроконтроллер 64-pin; Name: STM32F103x[C/D/E]
footprint LQFP64_H (64-Pin Low Profile Quad Pack 0.5 mm Pitch, IPC High Density)
pins: 1 VBAT, 2 PC13 / TAMPER-RTC, 3 PC14 / OSC32_IN, 4 PC15 / OSC32_OUT, 5 OSC_IN (PD0) / FSMC_D2 / CAN_RX, 6 OSC_OUT (PD1) / FSMC_D3 / CAN_TX, 7 NRST, 8 PC0 / ADC123_IN10, 9 PC1 / ADC123_IN11, 10 PC2 / ADC123_IN12, 11 PC3 / ADC123_IN13, 12 VSSA, 13 VDDA, 14 PA0 / WKUP / USART2_CTS / ADC123_IN0 / TIM2_CH1_ETR / TIM5_CH1/TIM8_ETR, 15 PA1 / USART2_RTS / ADC123_IN1 / TIM5_CH2 / TIM2_CH2, 16 PA2 / USART2_TX / TIM5_CH3 / ADC123_IN2 / TIM9_CH1 / TIM2_CH3, 17 PA3 / USART2_RX / TIM5_CH4 / ADC123_IN3 / TIM2_CH4 / TIM9_CH2, 18 VSS_4, 19 VDD_4, 20 PA4 / SPI1_NSS / USART2_CK / DAC_OUT1 / ADC12_IN4, 21 PA5 / SPI1_SCK / DAC_OUT2 / ADC12_IN5, 22 PA6 / SPI1_MISO / TIM8_BKIN / ADC12_IN6 / TIM3_CH1 / TIM13_CH1 / TIM1_BKIN, 23 PA7 / SPI1_MOSI / TIM8_CH1N / ADC12_IN7 / TIM3_CH2 / TIM14_CH1 / TIM1_CH1N, 24 PC4 / ADC12_IN14, 25 PC5 / ADC12_IN15, 26 PB0 / ADC12_IN8 / TIM3_CH3 / TIM8_CH2N / TIM1_CH2N, 27 PB1 / ADC12_IN9 / TIM3_CH4 / TIM8_CH3N / TIM1_CH3N, 28 PB2 / BOOT1, 29 PB10 / I2C2_SCL / USART3_TX / TIM2_CH3, 30 PB11 / I2C2_SDA / USART3_RX / TIM2_CH4, 31 VSS_1, 32 VDD_1, 33 PB12 / SPI2_NSS / I2S2_WS / I2C2_SMBA / USART3_CK / TIM1_BKIN, 34 PB13 / SPI2_SCK / I2S2_CK / USART3_CTS / TIM1_CH1N, 35 PB14 / SPI2_MISO / TIM1_CH2N / USART3_RTS, 36 PB15 / SPI2_MOSI / I2S2_SD / TIM1_CH3N , 37 PC6 / I2S2_MCK / TIM8_CH1 / SDIO_D6 / TIM3_CH1, 38 PC7 / I2S3_MCK / TIM8_CH2 / SDIO_D7 / TIM3_CH2, 39 PC8 / TIM8_CH3 / SDIO_D0 / TIM3_CH3, 40 PC9 / TIM8_CH4 / SDIO_D1 / TIM3_CH4, 41 PA8 / USART1_CK / TIM1_CH1 / MCO, 42 PA9 / USART1_TX / TIM1_CH2, 43 PA10 / USART1_RX / TIM1_CH3, 44 PA11 / USART1_CTS / USBDM / CAN_RX / TIM1_CH4, 45 PA12 / USART1_RTS / USBDP / CAN_TX / TIM1_ETR, 46 JTMS-SWDIO / PA13, 47 VSS_2, 48 VDD_2, 49 JTCK-SWCLK / PA14, 50 JTDI / SPI3_NSS / I2S3_WS / TIM2_CH1_ETR / PA15 / SPI1_NSS, 51 PC10 / UART4_TX / SDIO_D2 / USART3_TX, 52 PC11 / UART4_RX / SDIO_D3 / USART3_RX, 53 PC12 / UART5_TX / SDIO_CK / USART3_CK, 54 PD2 / TIM3_ETR / UART5_RX / SDIO_CMD, 55 JTDO / SPI3_SCK / I2S3_CK / PB3 / TRACESWO / TIM2_CH2 / SPI1_SCK, 56 NJTRST / SPI3_MISO / PB4 / TIM3_CH1 / SPI1_MISO, 57 PB5 / I2C1_SMBA / SPI3_MOSI / I2S3_SD / TIM3_CH2 / SPI1_MOSI, 58 PB6 / I2C1_SCL / TIM4_CH1 / USART1_TX, 59 PB7 / I2C1_SDA / FSMC_NADV / TIM4_CH2 / USART1_RX, 60 BOOT0, 61 PB8 / TIM4_CH3 / SDIO_D4 / I2C1_SCL / CAN_RX, 62 PB9 / TIM4_CH4 / SDIO_D5 / I2C1_SDA / CAN_TX, 63 VSS_3, 64 VDD_3
text: MPU

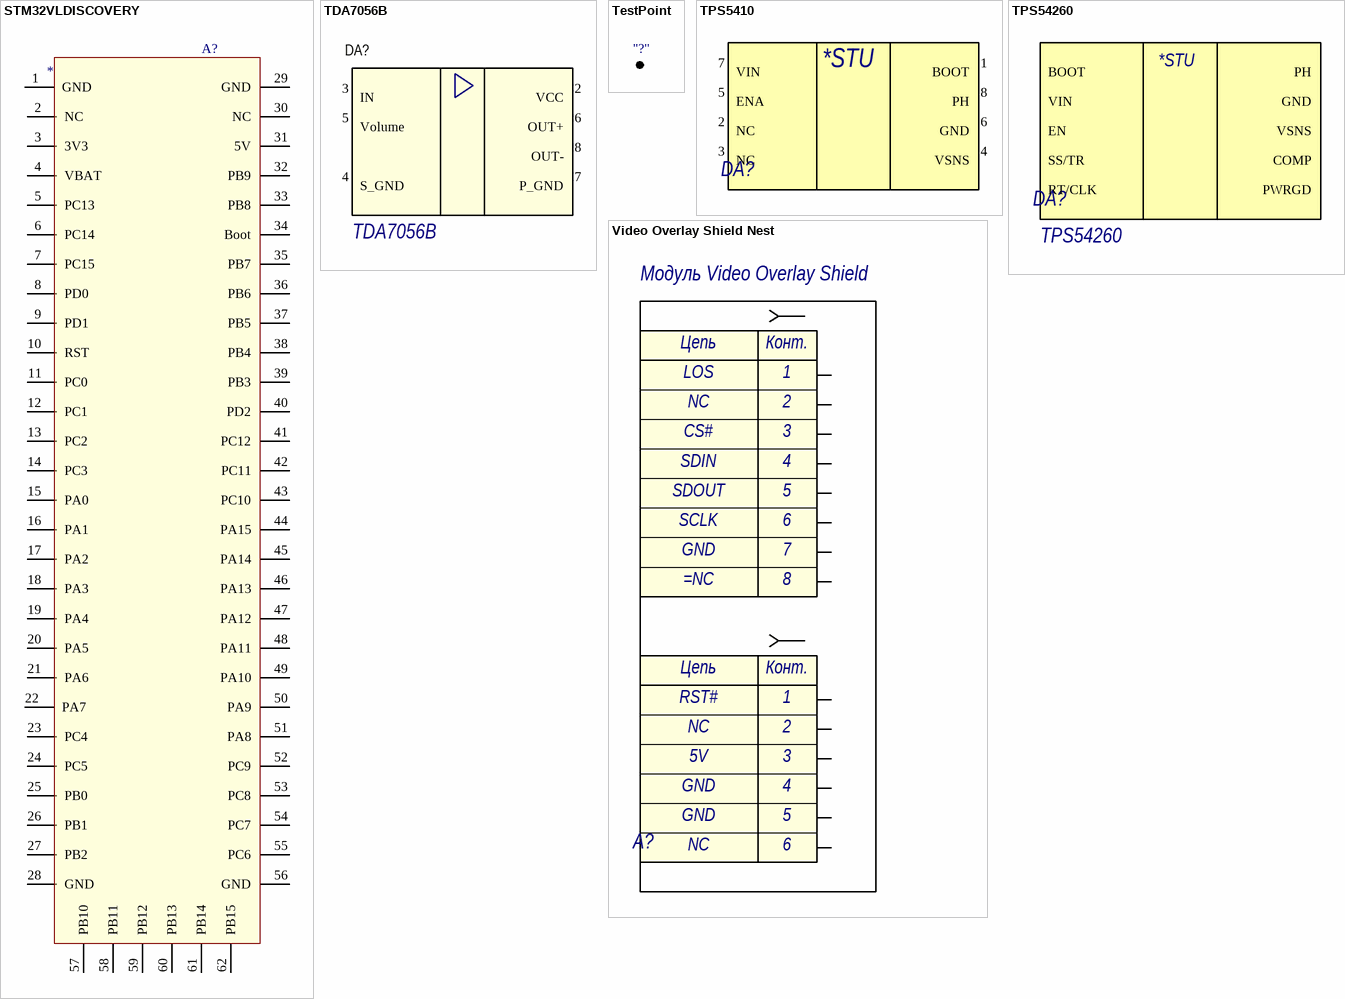
[diagram p5: symbols STM32VLDISCOVERY to Video Overlay Shield Nest]

## STM32VLDISCOVERY
designator A?
Разъемы морфо для установки платы
footprint STM32VLDISCOVERY
pins: 1 GND, 2 NC, 3 3V3, 4 VBAT, 5 PC13, 6 PC14, 7 PC15, 8 PD0, 9 PD1, 10 RST, 11 PC0, 12 PC1, 13 PC2, 14 PC3, 15 PA0, 16 PA1, 17 PA2, 18 PA3, 19 PA4, 20 PA5, 21 PA6, 22 PA7, 23 PC4, 24 PC5, 25 PB0, 26 PB1, 27 PB2, 28 GND "28", 29 GND, 30 NC, 31 5V, 32 PB9, 33 PB8, 34 Boot, 35 PB7, 36 PB6, 37 PB5, 38 PB4, 39 PB3, 40 PD2, 41 PC12, 42 PC11, 43 PC10, 44 PA15, 45 PA14, 46 PA13, 47 PA12, 48 PA11, 49 PA10, 50 PA9, 51 PA8, 52 PC9, 53 PC8, 54 PC7, 55 PC6, 56 GND, 57 PB10, 58 PB11, 59 PB12, 60 PB13, 61 PB14, 62 PB15

## TDA7056B
designator DA?
УНЧ; Name: TDA7056B
footprint SIL9MPF (plastic single in-line medium power package with fin)
pins: 1 NC hidden, 2 VCC, 3 IN, 4 S_GND, 5 Volume, 6 OUT+, 7 P_GND, 8 OUT-, 9 NC hidden

## TestPoint
designator "?"
Test point
footprint PAD_1.27
pins: 1

## TPS5410
designator DA?  (value not drawn)
Step-down dc/dc converter; Name: TPS5410
footprint SO8_H
pins: 1 BOOT, 2 NC, 3 NC, 4 VSNS, 5 ENA, 6 GND, 7 VIN, 8 PH
text: *STU

## TPS54260
designator DA?
Step-down dc/dc converter; Name: TPS54260
footprint HTSSOP10
pins: 1 BOOT, 2 VIN, 3 EN, 4 SS/TR, 5 RT/CLK, 6 PWRGD, 7 VSNS, 8 COMP, 9 GND, 10 PH
text: *STU

## Video Overlay Shield Nest
designator A?  Name: Модуль Video Overlay Shield  (hidden comment: *)
Модуль наложения видео
footprint Video Overlay Shield
pins: 1, 2, 3, 4, 5, 6, 7 hidden, 8 hidden, 9 hidden, 10 hidden, 11 hidden, 12 hidden, 13 hidden, 14 hidden, 15 hidden, 16 hidden, 17 hidden, 18 hidden, 19 hidden, 20 hidden, 21, 22, 23, 24, 25, 26, 27, 28
text: Цепь; Конт.; LOS; NC; CS#; SDIN; SDOUT; SCLK; GND; RST#; 5V